# Altium schematic symbol library Paylaod.SchLib: 3 symbols
Pins are listed as number, name and electrical type; pins without a type are passive.

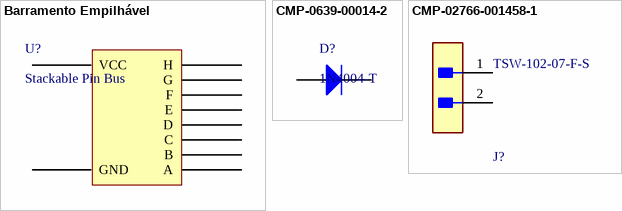
[diagram p0: symbols Barramento Empilhável to CMP-02766-001458-1]

## Barramento Empilhável
designator U?, comment Stackable Pin Bus
10 pinos, Passo 2.54mm, Dimensões da barra 26x2x8mm
footprint STACKABLE_PIN_BUS
footprint STACKABLE_PIN_BUS
pins: 1 VCC, 2 GND, 3 A, 4 B, 5 C, 6 D, 7 E, 8 F, 9 G, 10 H

## CMP-0639-00014-2
designator D?, comment 1N4004-T
1.0 A Rectifier, 15 pF, 400 V, -65 to 150 degC, 2-Pin DO-41 Plastic, RoHS, Tape and Reel; Manufacturer: Diodes Inc; VF (V): 1; Max. IR (uA): 5; Max. IFSM (A): 30; VRRM (V): 400; CT (pF): 15; ComponentLink2Description: Datasheet; PackageReference: DO-41-P-2; Packing: Tape and Reel; DatasheetVersion: Rev. 8-2; Operating Temperature Range (degC): -65 to 150; ComponentLink2URL: http://diodes.com/datasheets/ds28002.pdf; PackageDescription: 2-Pin Axial Lead, Body 4.635 x 2.36 mm, Lead Spread 25.4 mm; PartNumber: 1N4004-T; ComponentLink1Description: Manufacturer URL; Mounting Technology: Through Hole; Max. Average Rectified Current IO (A): 1; RoHS: TRUE; ComponentLink1URL: http://diodes.com/
footprint DIOD-DO-41-P-2_V (2-Leads, Axial Lead, Body 4.635x2.36mm, Pin Spacing 9mm)
pins: 1 A, 2 K

## CMP-02766-001458-1
designator J?, comment TSW-102-07-F-S
CONN HEADER VERT 2POS 2.54MM; Gender: Male; Max Current Rating: 7.6A; Number of Contacts: 2; Max Voltage Rating (AC): 550V; Orientation: Straight; Depth: 2.54mm; Series: TSW; Package Quantity: 1; Min Operating Temperature: -55°C; Max Operating Temperature: 125°C; Contact Type: Male Pin; Contact Shape: Square; Color: Black; Housing Color: Black; Connector Type: Header; Fastening Type: Pull; Radiation Hardening: No; Pitch: 2.54mm; Housing Material: Polyester; Mount: Through Hole; Number of Positions: 2; Number of Rows: 1; Contact Material: Bronze; Insulation Color: Black; Contact Finish - Mating: GOLD; Termination: Solder; Insulation Material: PBT; Length: 5.08mm; Flammability Rating: UL94 V-0; Contact Mating Length: 0.23inch; REACH SVHC: No SVHC; Contact Plating: Gold; RoHS Compliant: Yes; Packaging: Bulk
footprint FP-TSW-102-07-F-S-MFG
pins: 1, 2